# Altium schematic symbol library Power.SchLib: 1 symbol
Pins are listed as number, name and electrical type; pins without a type are passive.

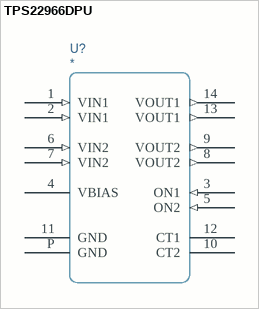
[diagram p0: symbol TPS22966DPU]

## TPS22966DPU
designator U?
footprint TI_DPU_R_PWSON_N14 (10-Lead SON)
pins: 1 VIN1 (in), 2 VIN1 (in), 3 ON1 (in), 4 VBIAS, 5 ON2 (in), 6 VIN2 (in), 7 VIN2 (in), 8 VOUT2 (out), 9 VOUT2 (out), 10 CT2, 11 GND, 12 CT1, 13 VOUT1 (out), 14 VOUT1 (out), P GND